# EAGLE library part AS7C34096A (library AS7C34096A)
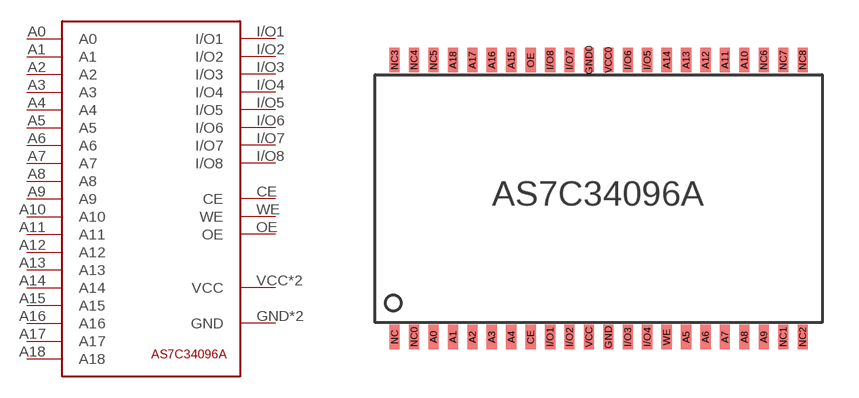
[diagram p0: symbol with the pads of AS7C34096A; footprint AS7C34096A]

Designator prefix -

## AS7C34096A  [AS7C34096A]
A0  A0
A1  A1
A2  A2
A3  A3
A4  A4
A5  A5
A6  A6
A7  A7
A8  A8
A9  A9
A10  A10
A11  A11
A12  A12
A13  A13
A14  A14
A15  A15
A16  A16
A17  A17
A18  A18
CE  CE
GND  GND
GND0  GND
I/O1  I/O1
I/O2  I/O2
I/O3  I/O3
I/O4  I/O4
I/O5  I/O5
I/O6  I/O6
I/O7  I/O7
I/O8  I/O8
OE  OE
VCC  VCC
VCC0  VCC
WE  WE

## Footprint AS7C34096A (pad centres in mm)
smd 0.42 x 1: A0 2.4,0; A1 3.2,0; A2 4,0; A3 4.8,0; A4 5.6,0; A5 12.8,0; A6 13.6,0; A7 14.4,0; A8 15.2,0; A9 16,0; A10 15.2,11.4; A11 14.4,11.4; A12 13.6,11.4; A13 12.8,11.4; A14 12,11.4; A15 5.6,11.4; A16 4.8,11.4; A17 4,11.4; A18 3.2,11.4; CE 6.4,0; GND 9.6,0; GND0 8.8,11.4; I/O1 7.2,0; I/O2 8,0; I/O3 10.4,0; I/O4 11.2,0; I/O5 11.2,11.4; I/O6 10.4,11.4; I/O7 8,11.4; I/O8 7.2,11.4; NC 0.8,0; NC0 1.6,0; NC1 16.8,0; NC2 17.6,0; NC3 0.8,11.4; NC4 1.6,11.4; NC5 2.4,11.4; NC6 16,11.4; NC7 16.8,11.4; NC8 17.6,11.4; OE 6.4,11.4; VCC 8.8,0; VCC0 9.6,11.4; WE 12,0